# EAGLE library part LPC1756 (library carrilib)
Microcontroller, 256kB flash, 32kB SRAM, CAN, USB Manufacturer: NXP Part Number: LPC1756FBD80
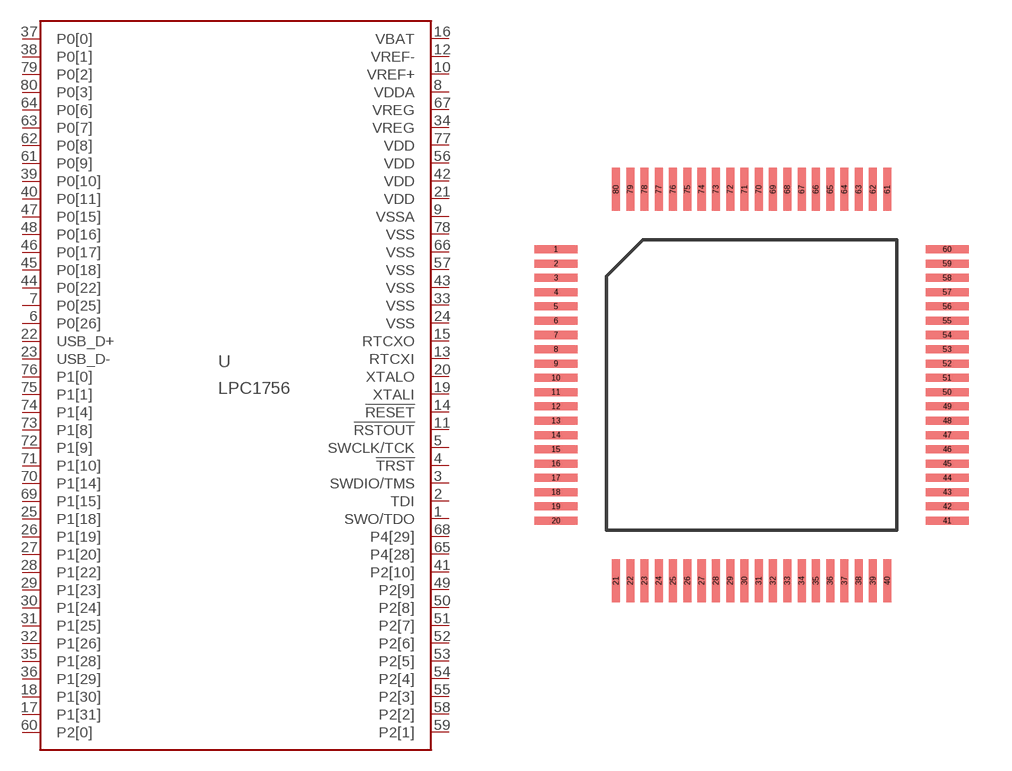
[diagram p24: symbol with the pads of LQFP80; footprint LQFP80]

Designator prefix U

## LPC1756FBD80  [LQFP80]
1  SWO/TDO
2  TDI
3  SWDIO/TMS
4  !TRST!
5  SWCLK/TCK
6  P0[26]
7  P0[25]
8  VDDA
9  VSSA
10  VREF+
11  !RSTOUT!
12  VREF-
13  RTCXI
14  !RESET!
15  RTCXO
16  VBAT
17  P1[31]
18  P1[30]
19  XTALI
20  XTALO
21  VDD
22  USB_D+
23  USB_D-
24  VSS
25  P1[18]
26  P1[19]
27  P1[20]
28  P1[22]
29  P1[23]
30  P1[24]
31  P1[25]
32  P1[26]
33  VSS
34  VREG
35  P1[28]
36  P1[29]
37  P0[0]
38  P0[1]
39  P0[10]
40  P0[11]
41  P2[10]
42  VDD
43  VSS
44  P0[22]
45  P0[18]
46  P0[17]
47  P0[15]
48  P0[16]
49  P2[9]
50  P2[8]
51  P2[7]
52  P2[6]
53  P2[5]
54  P2[4]
55  P2[3]
56  VDD
57  VSS
58  P2[2]
59  P2[1]
60  P2[0]
61  P0[9]
62  P0[8]
63  P0[7]
64  P0[6]
65  P4[28]
66  VSS
67  VREG
68  P4[29]
69  P1[15]
70  P1[14]
71  P1[10]
72  P1[9]
73  P1[8]
74  P1[4]
75  P1[1]
76  P1[0]
77  VDD
78  VSS
79  P0[2]
80  P0[3]

## Footprint LQFP80 (pad centres in mm)
LQFP80 Auto generated by make-symbol-device-package-bsdl.ulp Rev. 43
smd 1.5 x 0.28: 1 -6.85,4.75; 2 -6.85,4.25; 3 -6.85,3.75; 4 -6.85,3.25; 5 -6.85,2.75; 6 -6.85,2.25; 7 -6.85,1.75; 8 -6.85,1.25; 9 -6.85,0.75; 10 -6.85,0.25; 11 -6.85,-0.25; 12 -6.85,-0.75; 13 -6.85,-1.25; 14 -6.85,-1.75; 15 -6.85,-2.25; 16 -6.85,-2.75; 17 -6.85,-3.25; 18 -6.85,-3.75; 19 -6.85,-4.25; 20 -6.85,-4.75; 41 6.85,-4.75; 42 6.85,-4.25; 43 6.85,-3.75; 44 6.85,-3.25; 45 6.85,-2.75; 46 6.85,-2.25; 47 6.85,-1.75; 48 6.85,-1.25; 49 6.85,-0.75; 50 6.85,-0.25; 51 6.85,0.25; 52 6.85,0.75; 53 6.85,1.25; 54 6.85,1.75; 55 6.85,2.25; 56 6.85,2.75; 57 6.85,3.25; 58 6.85,3.75; 59 6.85,4.25; 60 6.85,4.75
smd 0.28 x 1.5: 21 -4.75,-6.85; 22 -4.25,-6.85; 23 -3.75,-6.85; 24 -3.25,-6.85; 25 -2.75,-6.85; 26 -2.25,-6.85; 27 -1.75,-6.85; 28 -1.25,-6.85; 29 -0.75,-6.85; 30 -0.25,-6.85; 31 0.25,-6.85; 32 0.75,-6.85; 33 1.25,-6.85; 34 1.75,-6.85; 35 2.25,-6.85; 36 2.75,-6.85; 37 3.25,-6.85; 38 3.75,-6.85; 39 4.25,-6.85; 40 4.75,-6.85; 61 4.75,6.85; 62 4.25,6.85; 63 3.75,6.85; 64 3.25,6.85; 65 2.75,6.85; 66 2.25,6.85; 67 1.75,6.85; 68 1.25,6.85; 69 0.75,6.85; 70 0.25,6.85; 71 -0.25,6.85; 72 -0.75,6.85; 73 -1.25,6.85; 74 -1.75,6.85; 75 -2.25,6.85; 76 -2.75,6.85; 77 -3.25,6.85; 78 -3.75,6.85; 79 -4.25,6.85; 80 -4.75,6.85